# Altium schematic symbol library 继电器.SchLib: 20 symbols
Pins are listed as number, name and electrical type; pins without a type are passive.

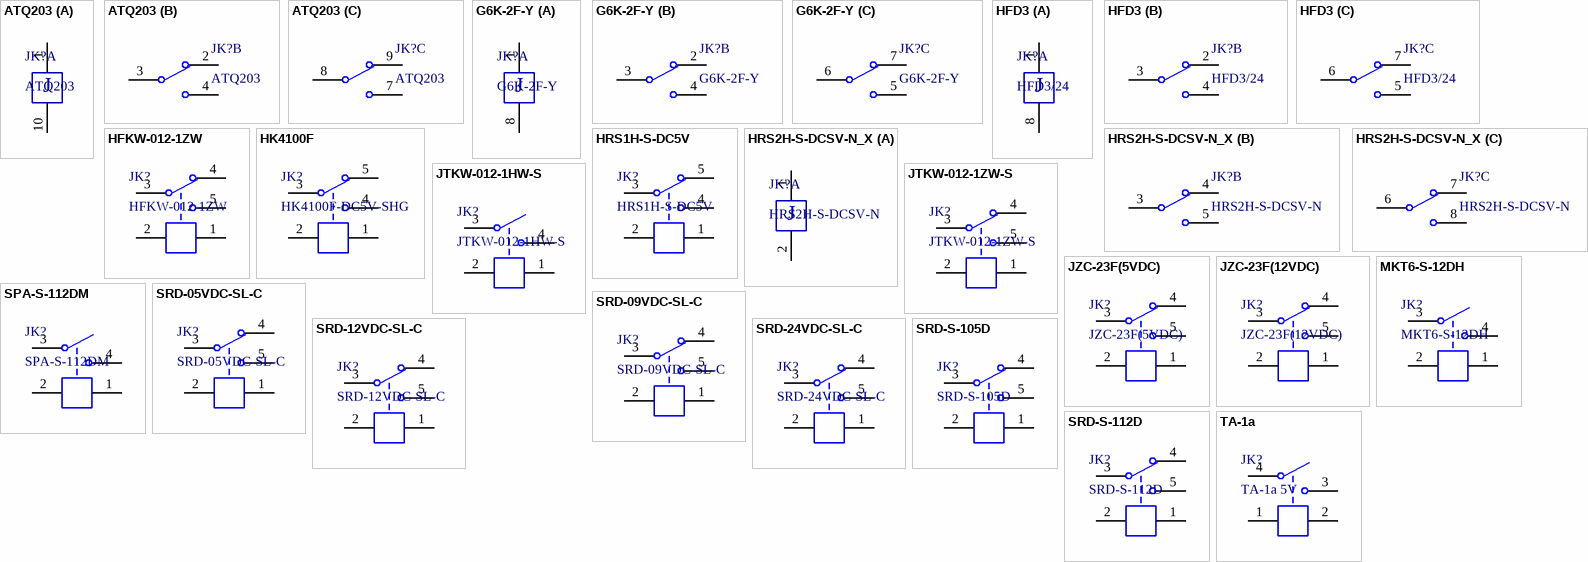
[diagram p0: symbols ATQ203 to TA-1a]

## ATQ203
designator JK?
12V双路继电器; 版权归属: 源创客; BOM名称: 12V双路继电器; 学习资源: www.ooocke.com
footprint ATQ203 (双刀双投)
part A pins: 1, 10
part B pins: 2, 3, 4
part C pins: 7, 8, 9
part A text: J

## G6K-2F-Y
designator JK?
双路双控信号继电器; 版权归属: 源创客; BOM名称: 双路双控信号继电器; 学习资源: www.ooocke.com
footprint G6K-2F-Y (Footprint not found)
part A pins: 1, 8
part B pins: 2, 3, 4
part C pins: 5, 6, 7
part A text: J

## HFD3
designator JK?, comment HFD3/24
超小型双路双控继电器; 版权归属: 源创客; BOM名称: 超小型双路双控继电器; 学习资源: www.ooocke.com
footprint HFD3-DIP (超小型型号继电器（15mm*7.5mm*9mm))
footprint HFD3-SMD (超小型型号继电器（15mm*7.5mm*9mm))
part A pins: 1, 8
part B pins: 2, 3, 4
part C pins: 5, 6, 7
part A text: J

## HFKW-012-1ZW
designator JK?
12V单路双控继电器; BOM名称: 12V继电器; 版权归属: 源创客; 学习资源: www.ooocke.com
footprint 012-1ZW_W (单刀双投)
pins: 1, 2, 3, 4, 5

## HK4100F
designator JK?, comment HK4100F-DC5V-SHG
单路双控继电器; 版权归属: 源创客; BOM名称: 单路双控继电器; 学习资源: www.ooocke.com
footprint HK4100F (Footprint not found)
pins: 1, 2, 3, 4, 5

## HRS1H-S-DC5V
designator JK?
5V单路双控继电器; BOM名称: 5V继电器; 版权归属: 源创客; 学习资源: www.ooocke.com
footprint HRS1H (单刀双投)
pins: 1, 2, 3, 4, 5

## HRS2H-S-DCSV-N_X
designator JK?, comment HRS2H-S-DCSV-N
5V双路双控继电器; BOM名称: 5V双路继电器; 版权归属: 源创客; 学习资源: www.ooocke.com
footprint HRS2H (双刀双投)
part A pins: 1, 2
part B pins: 3, 4, 5
part C pins: 6, 7, 8
part A text: J

## JTKW-012-1HW-S
designator JK?
12V单路常开继电器; BOM名称: 12V继电器; 版权归属: 源创客; 学习资源: www.ooocke.com
footprint 012-1HW_BK (单刀单投/常开)
pins: 1, 2, 3, 4

## JTKW-012-1ZW-S
designator JK?
12V单路双控继电器; BOM名称: 12V继电器; 版权归属: 源创客; 学习资源: www.ooocke.com
footprint 012-1ZW_BK (单刀双投)
pins: 1, 2, 3, 4, 5

## JZC-23F(5VDC)
designator JK?
5V单路双控继电器; BOM名称: 5V继电器; 版权归属: 源创客; 学习资源: www.ooocke.com
footprint JZC-23F(4123) (双控继电器)
pins: 1, 2, 3, 4, 5

## JZC-23F(12VDC)
designator JK?
12V单路双控继电器; BOM名称: 12V继电器; 版权归属: 源创客; 学习资源: www.ooocke.com
footprint JZC-23F(4123) (双控继电器)
pins: 1, 2, 3, 4, 5

## MKT6-S-12DH
designator JK?
12V单路常开继电器; BOM名称: 12V继电器; 版权归属: 源创客; 学习资源: www.ooocke.com
footprint MKT6-S-12DH (单刀单投/常开)
pins: 1, 2, 3, 4

## SPA-S-112DM
designator JK?
12V单路常开继电器; BOM名称: 12V继电器; 版权归属: 源创客; 学习资源: www.ooocke.com
footprint SPA-S-112DM (单刀单投/常开)
pins: 1, 2, 3, 4

## SRD-05VDC-SL-C
designator JK?
5V单路双控继电器; BOM名称: 5V继电器; 版权归属: 源创客; 学习资源: www.ooocke.com
footprint SRD-C_B (单刀双投)
pins: 1, 2, 3, 4, 5

## SRD-09VDC-SL-C
designator JK?
9V单路双控继电器; BOM名称: 9V继电器; 版权归属: 源创客; 学习资源: www.ooocke.com
footprint SRD-C_B (单刀双投)
pins: 1, 2, 3, 4, 5

## SRD-12VDC-SL-C
designator JK?
12V单路双控继电器; BOM名称: 12V继电器; 版权归属: 源创客; 学习资源: www.ooocke.com
footprint SRD-C_B (单刀双投)
pins: 1, 2, 3, 4, 5

## SRD-24VDC-SL-C
designator JK?
24V单路双控继电器; BOM名称: 24V继电器; 版权归属: 源创客; 学习资源: www.ooocke.com
footprint SRD-C_B (单刀双投)
pins: 1, 2, 3, 4, 5

## SRD-S-105D
designator JK?
5V单路双控继电器; BOM名称: 5V继电器; 版权归属: 源创客; 学习资源: www.ooocke.com
footprint SRD-C_BK (单刀双投)
pins: 1, 2, 3, 4, 5

## SRD-S-112D
designator JK?
12V单路双控继电器; BOM名称: 12V继电器; 版权归属: 源创客; 学习资源: www.ooocke.com
footprint SRD-C_BK (单刀双投)
pins: 1, 2, 3, 4, 5

## TA-1a
designator JK?, comment TA-1a 5V
单路常开继电器; 版权归属: 源创客; BOM名称: 单路常开继电器; 学习资源: www.ooocke.com
footprint TA-1a (微功耗超薄继电器21mm*5mm*12.5mm(长*宽*高))
pins: 1, 2, 3, 4